# EAGLE library part LSM6DSRTR (library 2022-12-04_02-09-21_Library)
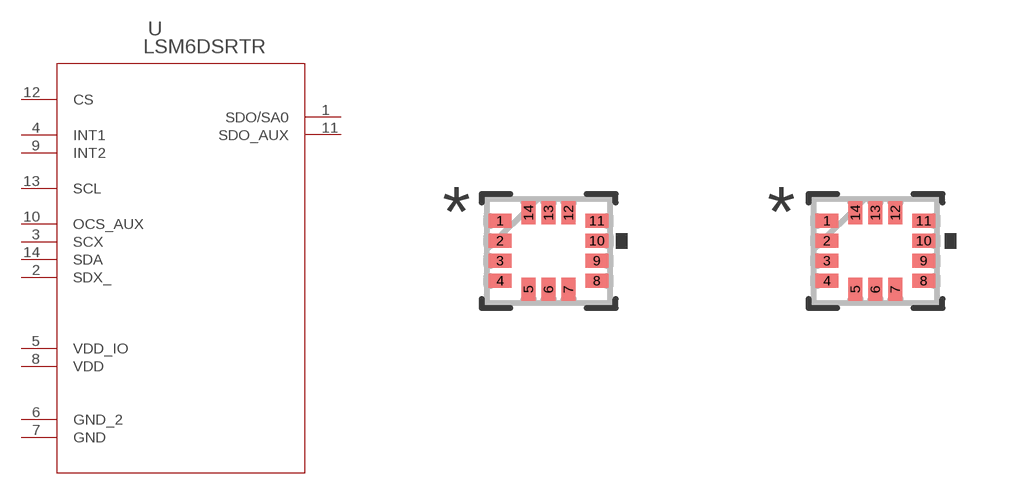
[diagram p0: symbol with the pads of LGA-14L_2P5X3X0P83_STM; footprints LGA-14L_2P5X3X0P83_STM, LGA-14L_2P5X3X0P83_STM-M]

Designator prefix U

## LSM6DSRTRLGA-14L_2P5X3X0P83_STM (Copyright: Copyright (C) 2022 Ultra Librarian. All rights reserved.; Manufacturer_Part_Number: LSM6DSRTR; Mfr_Name: STMicroelectronics)  [LGA-14L_2P5X3X0P83_STM]
1  SDO/SA0
2  SDX_
3  SCX
4  INT1  out
5  VDD_IO  pwr
6  GND_2  pas
7  GND  pas
8  VDD  pwr
9  INT2  out
10  OCS_AUX
11  SDO_AUX
12  CS  in
13  SCL  in
14  SDA

## LSM6DSRTRLGA-14L_2P5X3X0P83_STM-M (Copyright: Copyright (C) 2022 Ultra Librarian. All rights reserved.; Manufacturer_Part_Number: LSM6DSRTR; Mfr_Name: STMicroelectronics)  [LGA-14L_2P5X3X0P83_STM-M]
Pads as for LGA-14L_2P5X3X0P83_STM

## LSM6DSRTRLGA-14L_2P5X3X0P83_STM-L (Copyright: Copyright (C) 2022 Ultra Librarian. All rights reserved.; Manufacturer_Part_Number: LSM6DSRTR; Mfr_Name: STMicroelectronics)  [LGA-14L_2P5X3X0P83_STM-L]
Pads as for LGA-14L_2P5X3X0P83_STM

## Footprint LGA-14L_2P5X3X0P83_STM (pad centres in mm)
smd 0.577 x 0.351: 1 -1.21,0.75; 2 -1.21,0.25; 3 -1.21,-0.25; 4 -1.21,-0.75; 8 1.21,-0.75; 9 1.21,-0.25; 10 1.21,0.25; 11 1.21,0.75
smd 0.351 x 0.577: 5 -0.5,-0.956; 6 0,-0.956; 7 0.5,-0.956; 12 0.5,0.956; 13 0,0.956; 14 -0.5,0.956

## Footprint LGA-14L_2P5X3X0P83_STM-M (pad centres in mm)
smd 0.577 x 0.351: 1 -1.21,0.75; 2 -1.21,0.25; 3 -1.21,-0.25; 4 -1.21,-0.75; 8 1.21,-0.75; 9 1.21,-0.25; 10 1.21,0.25; 11 1.21,0.75
smd 0.351 x 0.577: 5 -0.5,-0.956; 6 0,-0.956; 7 0.5,-0.956; 12 0.5,0.956; 13 0,0.956; 14 -0.5,0.956

## Footprint LGA-14L_2P5X3X0P83_STM-L (pad centres in mm)
smd 0.577 x 0.351: 1 -1.21,0.75; 2 -1.21,0.25; 3 -1.21,-0.25; 4 -1.21,-0.75; 8 1.21,-0.75; 9 1.21,-0.25; 10 1.21,0.25; 11 1.21,0.75
smd 0.351 x 0.577: 5 -0.5,-0.956; 6 0,-0.956; 7 0.5,-0.956; 12 0.5,0.956; 13 0,0.956; 14 -0.5,0.956